# Altium footprint library ESP32-PICO-D4-KIT.PcbLib: 1 footprints
Each footprint in its own frame and in the unit in brackets; x right, y up, seen from the top. Pads: shape width x height; smd on the part's side, far side on the other; paste and mask are expansions set on the pad; w line width, h text height; cw(c..) or ccw(c..) is an arc to the next point about the centre after c.
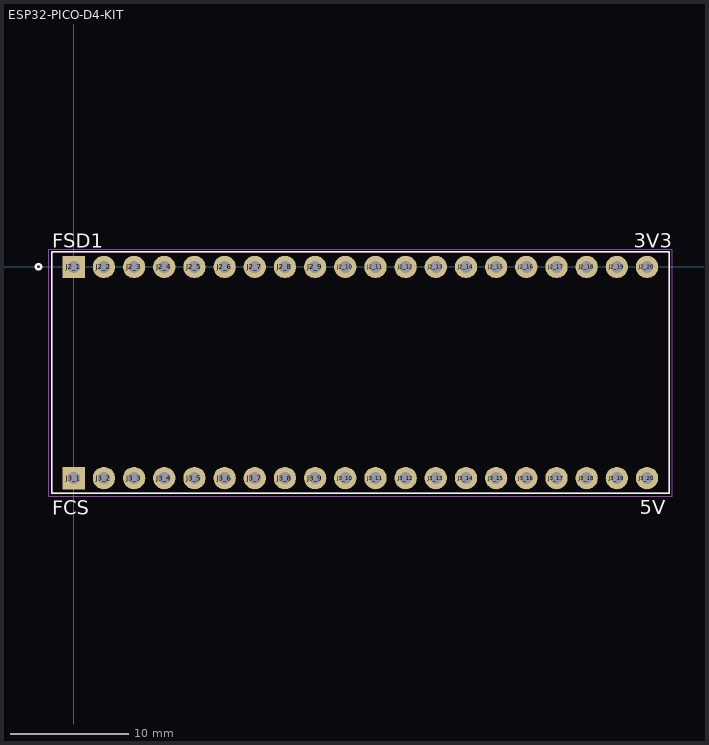
[diagram p0: the footprint, top view; thin cyan lines are the x and y axes]

## ESP32-PICO-D4-KIT [mil]
pads (40):
  rect 74x74 hole 40: J2_1(0,0) J3_1(0,-700)
  round 74 hole 40: J2_2(100,0) J2_3(200,0) J2_4(300,0) J2_5(400,0) J2_6(500,0) J2_7(600,0) J2_8(700,0) J2_9(800,0) J2_10(900,0) J2_11(1000,0) J2_12(1100,0) J2_13(1200,0) J2_14(1300,0) J2_15(1400,0) J2_16(1500,0) J2_17(1600,0) J2_18(1700,0) J2_19(1800,0) J2_20(1900,0) J3_2(100,-700) J3_3(200,-700) J3_4(300,-700) J3_5(400,-700) J3_6(500,-700) J3_7(600,-700) J3_8(700,-700) J3_9(800,-700) J3_10(900,-700) J3_11(1000,-700) J3_12(1100,-700) J3_13(1200,-700) J3_14(1300,-700) J3_15(1400,-700) J3_16(1500,-700) J3_17(1600,-700) J3_18(1700,-700) J3_19(1800,-700) J3_20(1900,-700)
Top Overlay:
  circle w7.87: c-116.93,0.39 r8.8
  lines w5: -73.62,-749.61 1973.62,-749.61 1973.62,49.61 -73.62,49.61 -73.62,-749.61
  text "FSD1" at -70.53,63.6 h47.27
  text "FCS" at -71.28,-820.59 h47.3
  text "3V3" at 1855.52,63.62 h47.27
  text "5V" at 1875.45,-820.23 h47.27
Mechanical 13:
  lines w5: -73.62,-749.61 1973.62,-749.61 1973.62,49.61 -73.62,49.61 -73.62,-749.61
Mechanical 15:
  lines w1.97: -83.46,-759.45 1983.46,-759.45 1983.46,59.45 -83.46,59.45 -83.46,-759.45